# Altium integrated library Micron Memory Mobile LPDRAM.IntLib: 146 symbols (part 11 of 41)
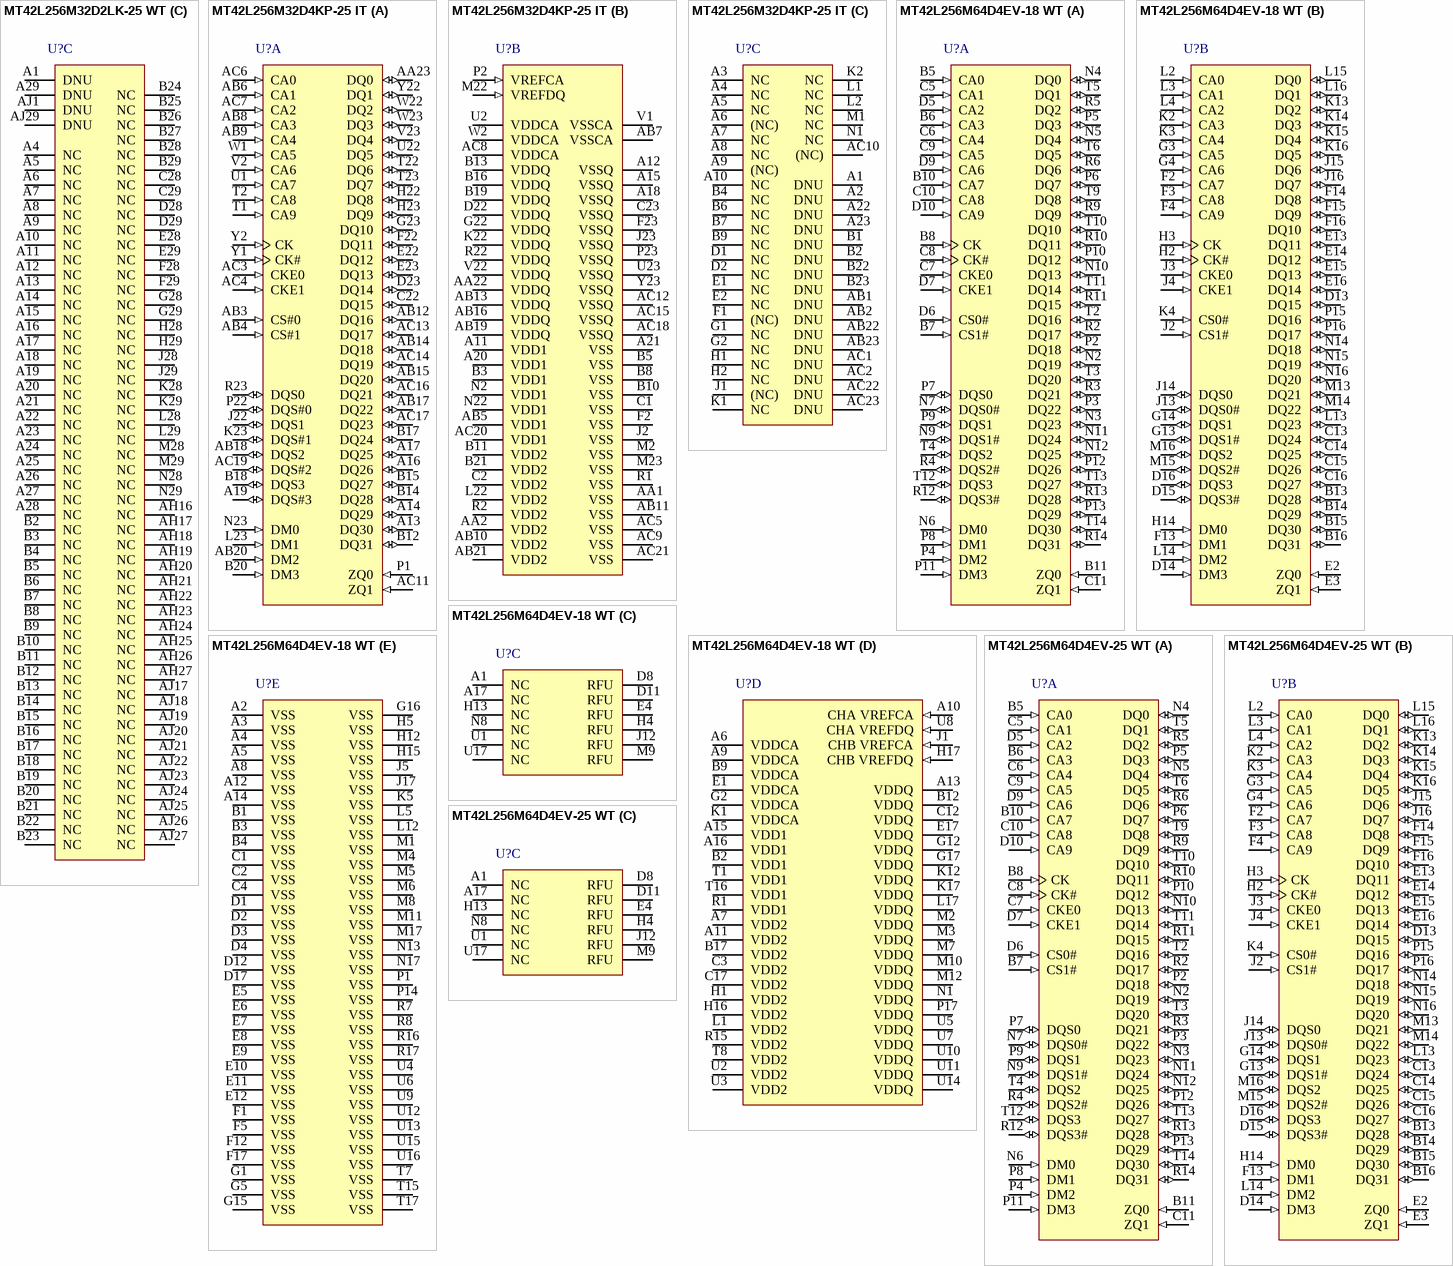
[diagram p34: symbols MT42L256M32D2LK-25 WT to MT42L256M64D4EV-25 WT]

## MT42L256M32D2LK-25 WT
designator U?
8Gb LPDDR2-800 SDRAM, 256Mb x 32, 2.5ns, 1.2V, -25 to 85 degC, 216-Ball WFBGA, Pb-Free; Manufacturer: Micron; PartNumber: MT42L256M32D2LK-25 WT; Clock Rate: 400 MHz; Op. Temp.: -25C to +85C; DatasheetVersion: Rev.L; PackageVersion: Rev.L; PackageReference: MICT-LK-216; PackageDescription: 216-Ball Fine-Pitch Ball Grid Array, 12 x 12 mm, Pitch 0.4 mm; Cycle Time: 2.5ns; Data Rate: LPDDR2-800; Density: 8Gb; Depth: 256Mb; Package: WFBGA; Part Status: Sampling; Pin Count: 216-ball; RoHS: Yes; Technology: Mobile LPDDR2; Voltage: 1.2V; Width: x32; Mounting Technology: Surface Mount; ComponentLink1Description: Manufacturer URL; ComponentLink1URL: http://www.micron.com/; ComponentLink2Description: Datasheet; ComponentLink2URL: http://www.micron.com/~/media/Documents/Products/Data%20Sheet/DRAM/Mobile%20DRAM/Low-Power%20DRAM/LPDDR2/U80M_4Gb_mobile_lpddr2_s4_sdram.pdf; ComponentLink3Description: Package Specification; ComponentLink3URL: http://www.micron.com/~/media/Documents/Products/Data%20Sheet/DRAM/Mobile%20DRAM/Low-Power%20DRAM/LPDDR2/U80M_4Gb_mobile_lpddr2_s4_sdram.pdf
footprint MICT-LK-216 (BGA, 216-Balls, Body 12x12mm, Pitch 0.4mm)
part A pins: AA1 DQS0 (io) "Data strobe: The data strobe is bidirectional (used for read and write data) and complementary (DQS and DQS#). It is edge-aligned output with read data and centered input with write data. DQS[3:0]/DQS[3:0]# is DQS for each (See Datasheet)", AA2 DQS#0 (io) "Data strobe: The data strobe is bidirectional (used for read and write data) and complementary (DQS and DQS#). It is edge-aligned output with read data and centered input with write data. DQS[3:0]/DQS[3:0]# is DQS for each (See Datasheet)", AA29 CKE0 (in) "Clock enable: CKE HIGH activates and CKE LOW deactivates the internal clock signals, input buffers, and output drivers. Power-saving modes are entered and exited via CKE transitions. CKE is considered part of the command (See Datasheet)", AB1 DM0 (in) "Input data mask: DM is an input mask signal for write data. Although DM balls are input-only, the DM loading is designed to match that of DQ and DQS balls. DM[3:0] is DM for each of the four data bytes, respectively.", AB28 CK (in) "Clock: CK and CK# are differential clock inputs. All CA inputs are sampled on both rising and falling edges of CK. CS and CKE inputs are sampled at the rising edge of CK. AC timings are referenced to clock.", AB29 CK# (in) "Clock: CK and CK# are differential clock inputs. All CA inputs are sampled on both rising and falling edges of CK. CS and CKE inputs are sampled at the rising edge of CK. AC timings are referenced to clock.", AC2 DM1 (in) "Input data mask: DM is an input mask signal for write data. Although DM balls are input-only, the DM loading is designed to match that of DQ and DQS balls. DM[3:0] is DM for each of the four data bytes, respectively.", AC29 CA5 (in) "Command/address inputs: Provide the command and address inputs according to the command truth table.", AD1 DQS#1 (io) "Data strobe: The data strobe is bidirectional (used for read and write data) and complementary (DQS and DQS#). It is edge-aligned output with read data and centered input with write data. DQS[3:0]/DQS[3:0]# is DQS for each (See Datasheet)", AD2 DQS1 (io) "Data strobe: The data strobe is bidirectional (used for read and write data) and complementary (DQS and DQS#). It is edge-aligned output with read data and centered input with write data. DQS[3:0]/DQS[3:0]# is DQS for each (See Datasheet)", AD28 CA7 (in) "Command/address inputs: Provide the command and address inputs according to the command truth table.", AD29 CA6 (in) "Command/address inputs: Provide the command and address inputs according to the command truth table.", AE1 DQ8 (io) "Data input/output: Bidirectional data bus.", AE28 CA8 (in) "Command/address inputs: Provide the command and address inputs according to the command truth table.", AF1 DQ9 (io) "Data input/output: Bidirectional data bus.", AF29 CA9 (in) "Command/address inputs: Provide the command and address inputs according to the command truth table.", AG1 DQ10 (io) "Data input/output: Bidirectional data bus.", AG2 DQ11 (io) "Data input/output: Bidirectional data bus.", AG29 ZQ (in) "External impedance (240 ohm): This signal is used to calibrate the device output impedance for S4 devices. For S2 devices, ZQ should be tied to VDDCA.", AH4 DQ13 (io) "Data input/output: Bidirectional data bus.", AH6 DQ15 (io) "Data input/output: Bidirectional data bus.", AH7 DM3 (in) "Input data mask: DM is an input mask signal for write data. Although DM balls are input-only, the DM loading is designed to match that of DQ and DQS balls. DM[3:0] is DM for each of the four data bytes, respectively.", AH8 DQS3 (io) "Data strobe: The data strobe is bidirectional (used for read and write data) and complementary (DQS and DQS#). It is edge-aligned output with read data and centered input with write data. DQS[3:0]/DQS[3:0]# is DQS for each (See Datasheet)", AH10 DQ26 (io) "Data input/output: Bidirectional data bus.", AH11 DQ27 (io) "Data input/output: Bidirectional data bus.", AH13 DQ30 (io) "Data input/output: Bidirectional data bus.", AJ3 DQ12 (io) "Data input/output: Bidirectional data bus.", AJ5 DQ14 (io) "Data input/output: Bidirectional data bus.", AJ8 DQS#3 (io) "Data strobe: The data strobe is bidirectional (used for read and write data) and complementary (DQS and DQS#). It is edge-aligned output with read data and centered input with write data. DQS[3:0]/DQS[3:0]# is DQS for each (See Datasheet)", AJ9 DQ24 (io) "Data input/output: Bidirectional data bus.", AJ10 DQ25 (io) "Data input/output: Bidirectional data bus.", AJ12 DQ28 (io) "Data input/output: Bidirectional data bus.", AJ13 DQ29 (io) "Data input/output: Bidirectional data bus.", AJ14 DQ31 (io) "Data input/output: Bidirectional data bus.", C2 DQ16 (io) "Data input/output: Bidirectional data bus.", D1 DQ17 (io) "Data input/output: Bidirectional data bus.", E1 DQ18 (io) "Data input/output: Bidirectional data bus.", E2 DQ19 (io) "Data input/output: Bidirectional data bus.", F2 DQ20 (io) "Data input/output: Bidirectional data bus.", G1 DQ21 (io) "Data input/output: Bidirectional data bus.", H1 DQ22 (io) "Data input/output: Bidirectional data bus.", H2 DQ23 (io) "Data input/output: Bidirectional data bus.", K1 DQS#2 (io) "Data strobe: The data strobe is bidirectional (used for read and write data) and complementary (DQS and DQS#). It is edge-aligned output with read data and centered input with write data. DQS[3:0]/DQS[3:0]# is DQS for each (See Datasheet)", K2 DQS2 (io) "Data strobe: The data strobe is bidirectional (used for read and write data) and complementary (DQS and DQS#). It is edge-aligned output with read data and centered input with write data. DQS[3:0]/DQS[3:0]# is DQS for each (See Datasheet)", L1 DM2 (in) "Input data mask: DM is an input mask signal for write data. Although DM balls are input-only, the DM loading is designed to match that of DQ and DQS balls. DM[3:0] is DM for each of the four data bytes, respectively.", L2 DQ0 (io) "Input data mask: DM is an input mask signal for write data. Although DM balls are input-only, the DM loading is designed to match that of DQ and DQS balls. DM[3:0] is DM for each of the four data bytes, respectively.", M1 DQ1 (io) "Data input/output: Bidirectional data bus.", N1 DQ2 (io) "Data input/output: Bidirectional data bus.", R29 CA0 (in) "Command/address inputs: Provide the command and address inputs according to the command truth table.", T29 CA1 (in) "Command/address inputs: Provide the command and address inputs according to the command truth table.", U2 DQ3 (io) "Data input/output: Bidirectional data bus.", U29 CA2 (in) "Command/address inputs: Provide the command and address inputs according to the command truth table.", V1 DQ4 (io) "Data input/output: Bidirectional data bus.", V29 CA3 (in) "Command/address inputs: Provide the command and address inputs according to the command truth table.", W1 DQ6 (io) "Data input/output: Bidirectional data bus.", W2 DQ5 (io) "Data input/output: Bidirectional data bus.", W28 CA4 (in) "Command/address inputs: Provide the command and address inputs according to the command truth table.", W29 CS#1 (in) "Chip select: CS# is considered part of the command code and is sampled at the rising edge of CK.", Y2 DQ7 (io) "Data input/output: Bidirectional data bus.", Y28 CS#0 (in) "Chip select: CS# is considered part of the command code and is sampled at the rising edge of CK.", Y29 CKE1 (in) "Clock enable: CKE HIGH activates and CKE LOW deactivates the internal clock signals, input buffers, and output drivers. Power-saving modes are entered and exited via CKE transitions. CKE is considered part of the command (See Datasheet)"
part B pins: A2 VSS (power) "Common ground", A3 VDD2 (power) "Core power: Supply 2.", AA28 VSSCA (power) "Command/address ground: Isolated on the die for improved noise immunity.", AB2 VSSQ (power) "DQ ground: Isolated on the die for improved noise immunity.", AC1 VDDQ (power) "DQ power supply: Isolated on the die for improved noise immunity.", AC28 VDDCA (power) "Command/address power supply: Command/address power supply.", AE2 VSSQ (power) "DQ ground: Isolated on the die for improved noise immunity.", AE29 VDDCA (power) "Command/address power supply: Command/address power supply.", AF2 VDDQ (power) "DQ power supply: Isolated on the die for improved noise immunity.", AF28 VSSCA (power) "Command/address ground: Isolated on the die for improved noise immunity.", AG28 VDD2 (power) "Core power: Supply 2.", AH1 VSSQ (power) "DQ ground: Isolated on the die for improved noise immunity.", AH2 VDD1 (power) "Core power: Supply 1.", AH3 VDD2 (power) "Core power: Supply 2.", AH5 VSSQ (power) "DQ ground: Isolated on the die for improved noise immunity.", AH9 VDDQ (power) "DQ power supply: Isolated on the die for improved noise immunity.", AH12 VDDQ (power) "DQ power supply: Isolated on the die for improved noise immunity.", AH14 VSSQ (power) "DQ ground: Isolated on the die for improved noise immunity.", AH15 VDD2 (power) "Core power: Supply 2.", AH28 VDD1 (power) "Core power: Supply 1.", AH29 VSSCA (power) "Command/address ground: Isolated on the die for improved noise immunity.", AJ2 VSS (power) "Common ground", AJ4 VDDQ (power) "DQ power supply: Isolated on the die for improved noise immunity.", AJ6 VDDQ (power) "DQ power supply: Isolated on the die for improved noise immunity.", AJ7 VSSQ (power) "DQ ground: Isolated on the die for improved noise immunity.", AJ11 VSSQ (power) "DQ ground: Isolated on the die for improved noise immunity.", AJ15 VDD1 (power) "Core power: Supply 1.", AJ16 VSS (power) "Common ground", AJ28 VSS (power) "Common ground", B1 VSSQ (power) "DQ ground: Isolated on the die for improved noise immunity.", C1 VDD1 (power) "Core power: Supply 1.", D2 VDDQ (power) "DQ power supply: Isolated on the die for improved noise immunity.", F1 VSSQ (power) "DQ ground: Isolated on the die for improved noise immunity.", G2 VDDQ (power) "DQ power supply: Isolated on the die for improved noise immunity.", J1 VSSQ (power) "DQ ground: Isolated on the die for improved noise immunity.", J2 VDDQ (power) "DQ power supply: Isolated on the die for improved noise immunity.", M2 VSSQ (power) "DQ ground: Isolated on the die for improved noise immunity.", N2 VDD1 (power) "Core power: Supply 1.", P1 VSS (power) "Common ground", P2 VSS (power) "Common ground", P28 VDD2 (power) "Core power: Supply 2.", P29 VDD1 (power) "Core power: Supply 1.", R1 VDD1 (power) "Core power: Supply 1.", R2 VREFDQ (in) "Reference voltage: VREFCA is reference for command/address input buffers, VREFDQ is reference for DQ input buffers.", R28 VSS (power) "Common ground", T1 VDD2 (power) "Core power: Supply 2.", T2 VDD2 (power) "Core power: Supply 2.", T28 VDDCA (power) "Command/address power supply: Command/address power supply.", U1 VDDQ (power) "DQ power supply: Isolated on the die for improved noise immunity.", U28 VREFCA (in) "Reference voltage: VREFCA is reference for command/address input buffers, VREFDQ is reference for DQ input buffers.", V2 VSSQ (power) "DQ ground: Isolated on the die for improved noise immunity.", V28 VSSCA (power) "Command/address ground: Isolated on the die for improved noise immunity.", Y1 VDDQ (power) "DQ power supply: Isolated on the die for improved noise immunity."
part C pins: A1 DNU "Do not use: Must be grounded or left floating.", A4 NC "No connect: Not internally connected.", A5 NC "No connect: Not internally connected.", A6 NC "No connect: Not internally connected.", A7 NC "No connect: Not internally connected.", A8 NC "No connect: Not internally connected.", A9 NC "No connect: Not internally connected.", A10 NC "No connect: Not internally connected.", A11 NC "No connect: Not internally connected.", A12 NC "No connect: Not internally connected.", A13 NC "No connect: Not internally connected.", A14 NC "No connect: Not internally connected.", A15 NC "No connect: Not internally connected.", A16 NC "No connect: Not internally connected.", A17 NC "No connect: Not internally connected.", A18 NC "No connect: Not internally connected.", A19 NC "No connect: Not internally connected.", A20 NC "No connect: Not internally connected.", A21 NC "No connect: Not internally connected.", A22 NC "No connect: Not internally connected.", A23 NC "No connect: Not internally connected.", A24 NC "No connect: Not internally connected.", A25 NC "No connect: Not internally connected.", A26 NC "No connect: Not internally connected.", A27 NC "No connect: Not internally connected.", A28 NC "No connect: Not internally connected.", A29 DNU "Do not use: Must be grounded or left floating.", AH16 NC "No connect: Not internally connected.", AH17 NC "No connect: Not internally connected.", AH18 NC "No connect: Not internally connected.", AH19 NC "No connect: Not internally connected.", AH20 NC "No connect: Not internally connected.", AH21 NC "No connect: Not internally connected.", AH22 NC "No connect: Not internally connected.", AH23 NC "No connect: Not internally connected.", AH24 NC "No connect: Not internally connected.", AH25 NC "No connect: Not internally connected.", AH26 NC "No connect: Not internally connected.", AH27 NC "No connect: Not internally connected.", AJ1 DNU "Do not use: Must be grounded or left floating.", AJ17 NC "No connect: Not internally connected.", AJ18 NC "No connect: Not internally connected.", AJ19 NC "No connect: Not internally connected.", AJ20 NC "No connect: Not internally connected.", AJ21 NC "No connect: Not internally connected.", AJ22 NC "No connect: Not internally connected.", AJ23 NC "No connect: Not internally connected.", AJ24 NC "No connect: Not internally connected.", AJ25 NC "No connect: Not internally connected.", AJ26 NC "No connect: Not internally connected.", AJ27 NC "No connect: Not internally connected.", AJ29 DNU "Do not use: Must be grounded or left floating.", B2 NC "No connect: Not internally connected.", B3 NC "No connect: Not internally connected.", B4 NC "No connect: Not internally connected.", B5 NC "No connect: Not internally connected.", B6 NC "No connect: Not internally connected.", B7 NC "No connect: Not internally connected.", B8 NC "No connect: Not internally connected.", B9 NC "No connect: Not internally connected.", B10 NC "No connect: Not internally connected.", B11 NC "No connect: Not internally connected.", B12 NC "No connect: Not internally connected.", B13 NC "No connect: Not internally connected.", B14 NC "No connect: Not internally connected.", B15 NC "No connect: Not internally connected.", B16 NC "No connect: Not internally connected.", B17 NC "No connect: Not internally connected.", B18 NC "No connect: Not internally connected.", B19 NC "No connect: Not internally connected.", B20 NC "No connect: Not internally connected.", B21 NC "No connect: Not internally connected.", B22 NC "No connect: Not internally connected.", B23 NC "No connect: Not internally connected.", B24 NC "No connect: Not internally connected.", B25 NC "No connect: Not internally connected.", B26 NC "No connect: Not internally connected.", B27 NC "No connect: Not internally connected.", B28 NC "No connect: Not internally connected.", B29 NC "No connect: Not internally connected.", C28 NC "No connect: Not internally connected.", C29 NC "No connect: Not internally connected.", D28 NC "No connect: Not internally connected.", D29 NC "No connect: Not internally connected.", E28 NC "No connect: Not internally connected.", E29 NC "No connect: Not internally connected.", F28 NC "No connect: Not internally connected.", F29 NC "No connect: Not internally connected.", G28 NC "No connect: Not internally connected.", G29 NC "No connect: Not internally connected.", H28 NC "No connect: Not internally connected.", H29 NC "No connect: Not internally connected.", J28 NC "No connect: Not internally connected.", J29 NC "No connect: Not internally connected.", K28 NC "No connect: Not internally connected.", K29 NC "No connect: Not internally connected.", L28 NC "No connect: Not internally connected.", L29 NC "No connect: Not internally connected.", M28 NC "No connect: Not internally connected.", M29 NC "No connect: Not internally connected.", N28 NC "No connect: Not internally connected.", N29 NC "No connect: Not internally connected."

## MT42L256M32D4KP-25 IT
designator U?
8Gb LPDDR2-800 SDRAM, 256Mb x 32, 2.5ns, 1.2V, -25 to 85 degC, 168-Pin POP, Pb-Free; Manufacturer: Micron; PartNumber: MT42L256M32D4KP-25 IT; Clock Rate: 400 MHz; Op. Temp.: -25C to +85C; DatasheetVersion: Rev.N; PackageVersion: Rev.N; PackageReference: MICT-KP-168; PackageDescription: 168-Ball POP, 12 x 12 mm, Pitch 0.5 mm; Cycle Time: 2.5ns; Data Rate: LPDDR2-800; Density: 8Gb; Depth: 256Mb; Package: POP; Part Status: Production; Pin Count: 168-ball; RoHS: Yes; Technology: Mobile LPDDR2; Voltage: 1.2V; Width: x32; Mounting Technology: Surface Mount; ComponentLink1Description: Manufacturer URL; ComponentLink1URL: http://www.micron.com/; ComponentLink2Description: Datasheet; ComponentLink2URL: http://www.micron.com/~/media/Documents/Products/Data%20Sheet/DRAM/Mobile%20DRAM/Low-Power%20DRAM/LPDDR2/G69A_2Gb_mobile_lpddr2_s4_sdram.pdf; ComponentLink3Description: Package Specification; ComponentLink3URL: http://www.micron.com/~/media/Documents/Products/Data%20Sheet/DRAM/Mobile%20DRAM/Low-Power%20DRAM/LPDDR2/G69A_2Gb_mobile_lpddr2_s4_sdram.pdf
footprint MICT-KP-168 (BGA, 168-Balls, Body 12x12mm, Pitch 0.5mm)
part A pins: A13 DQ30 (io) "Data input/output: Bidirectional data bus.", A14 DQ29 (io) "Data input/output: Bidirectional data bus.", A16 DQ26 (io) "Data input/output: Bidirectional data bus.", A17 DQ25 (io) "Data input/output: Bidirectional data bus.", A19 DQS#3 (io) "Data strobe: The data strobe is bidirectional (used for read and write data) and complementary (DQS and DQS#). It is edge-aligned output with read data and centered input with write data. DQS[3:0]/DQS[3:0]# is DQS for each (See Datasheet)", AA23 DQ0 (io) "Data input/output: Bidirectional data bus.", AB3 CS#0 (in) "Chip select: CS# is considered part of the command code and is sampled at the rising edge of CK.", AB4 CS#1 (in) "Chip select: CS# is considered part of the command code and is sampled at the rising edge of CK.", AB6 CA1 (in) "Command/address inputs: Provide the command and address inputs according to the command truth table.", AB8 CA3 (in) "Command/address inputs: Provide the command and address inputs according to the command truth table.", AB9 CA4 (in) "Command/address inputs: Provide the command and address inputs according to the command truth table.", AB12 DQ16 (io) "Data input/output: Bidirectional data bus.", AB14 DQ18 (io) "Data input/output: Bidirectional data bus.", AB15 DQ20 (io) "Data input/output: Bidirectional data bus.", AB17 DQ22 (io) "Data input/output: Bidirectional data bus.", AB18 DQS2 (io) "Data strobe: The data strobe is bidirectional (used for read and write data) and complementary (DQS and DQS#). It is edge-aligned output with read data and centered input with write data. DQS[3:0]/DQS[3:0]# is DQS for each (See Datasheet)", AB20 DM2 (in) "Input data mask: DM is an input mask signal for write data. Although DM balls are input-only, the DM loading is designed to match that of DQ and DQS balls. DM[3:0] is DM for each of the four data bytes, respectively.", AC3 CKE0 (in) "Clock enable: CKE HIGH activates and CKE LOW deactivates the internal clock signals, input buffers, and output drivers. Power-saving modes are entered and exited via CKE transitions. CKE is considered part of the command (See Datasheet)", AC4 CKE1 (in) "Clock enable: CKE HIGH activates and CKE LOW deactivates the internal clock signals, input buffers, and output drivers. Power-saving modes are entered and exited via CKE transitions. CKE is considered part of the command (See Datasheet)", AC6 CA0 (in) "Command/address inputs: Provide the command and address inputs according to the command truth table.", AC7 CA2 (in) "Command/address inputs: Provide the command and address inputs according to the command truth table.", AC11 ZQ1 (in) "External impedance (240 ohm): This signal is used to calibrate the device output impedance for S4 devices. For S2 devices, ZQ should be tied to VDDCA.", AC13 DQ17 (io) "Data input/output: Bidirectional data bus.", AC14 DQ19 (io) "Data input/output: Bidirectional data bus.", AC16 DQ21 (io) "Data input/output: Bidirectional data bus.", AC17 DQ23 (io) "Data input/output: Bidirectional data bus.", AC19 DQS#2 (io) "Data strobe: The data strobe is bidirectional (used for read and write data) and complementary (DQS and DQS#). It is edge-aligned output with read data and centered input with write data. DQS[3:0]/DQS[3:0]# is DQS for each (See Datasheet)", B12 DQ31 (io) "Data input/output: Bidirectional data bus.", B14 DQ28 (io) "Data input/output: Bidirectional data bus.", B15 DQ27 (io) "Data input/output: Bidirectional data bus.", B17 DQ24 (io) "Data input/output: Bidirectional data bus.", B18 DQS3 (io) "Data strobe: The data strobe is bidirectional (used for read and write data) and complementary (DQS and DQS#). It is edge-aligned output with read data and centered input with write data. DQS[3:0]/DQS[3:0]# is DQS for each (See Datasheet)", B20 DM3 (in) "Input data mask: DM is an input mask signal for write data. Although DM balls are input-only, the DM loading is designed to match that of DQ and DQS balls. DM[3:0] is DM for each of the four data bytes, respectively.", C22 DQ15 (io) "Data input/output: Bidirectional data bus.", D23 DQ14 (io) "Data input/output: Bidirectional data bus.", E22 DQ12 (io) "Data input/output: Bidirectional data bus.", E23 DQ13 (io) "Data input/output: Bidirectional data bus.", F22 DQ11 (io) "Data input/output: Bidirectional data bus.", G23 DQ10 (io) "Data input/output: Bidirectional data bus.", H22 DQ8 (io) "Data input/output: Bidirectional data bus.", H23 DQ9 (io) "Data input/output: Bidirectional data bus.", J22 DQS1 (io) "Data strobe: The data strobe is bidirectional (used for read and write data) and complementary (DQS and DQS#). It is edge-aligned output with read data and centered input with write data. DQS[3:0]/DQS[3:0]# is DQS for each (See Datasheet)", K23 DQS#1 (io) "Data strobe: The data strobe is bidirectional (used for read and write data) and complementary (DQS and DQS#). It is edge-aligned output with read data and centered input with write data. DQS[3:0]/DQS[3:0]# is DQS for each (See Datasheet)", L23 DM1 (in) "Input data mask: DM is an input mask signal for write data. Although DM balls are input-only, the DM loading is designed to match that of DQ and DQS balls. DM[3:0] is DM for each of the four data bytes, respectively.", N23 DM0 (in) "Input data mask: DM is an input mask signal for write data. Although DM balls are input-only, the DM loading is designed to match that of DQ and DQS balls. DM[3:0] is DM for each of the four data bytes, respectively.", P1 ZQ0 (in) "External impedance (240 ohm): This signal is used to calibrate the device output impedance for S4 devices. For S2 devices, ZQ should be tied to VDDCA.", P22 DQS#0 (io) "Data strobe: The data strobe is bidirectional (used for read and write data) and complementary (DQS and DQS#). It is edge-aligned output with read data and centered input with write data. DQS[3:0]/DQS[3:0]# is DQS for each (See Datasheet)", R23 DQS0 (io) "Data strobe: The data strobe is bidirectional (used for read and write data) and complementary (DQS and DQS#). It is edge-aligned output with read data and centered input with write data. DQS[3:0]/DQS[3:0]# is DQS for each (See Datasheet)", T1 CA9 (in) "Command/address inputs: Provide the command and address inputs according to the command truth table.", T2 CA8 (in) "Command/address inputs: Provide the command and address inputs according to the command truth table.", T22 DQ6 (io) "Data input/output: Bidirectional data bus.", T23 DQ7 (io) "Data input/output: Bidirectional data bus.", U1 CA7 (in) "Command/address inputs: Provide the command and address inputs according to the command truth table.", U22 DQ5 (io) "Data input/output: Bidirectional data bus.", V2 CA6 (in) "Command/address inputs: Provide the command and address inputs according to the command truth table.", V23 DQ4 (io) "Data input/output: Bidirectional data bus.", W1 CA5 (in) "Command/address inputs: Provide the command and address inputs according to the command truth table.", W22 DQ2 (io) "Data input/output: Bidirectional data bus.", W23 DQ3 (io) "Data input/output: Bidirectional data bus.", Y1 CK# (in) "Clock: CK and CK# are differential clock inputs. All CA inputs are sampled on both rising and falling edges of CK. CS and CKE inputs are sampled at the rising edge of CK. AC timings are referenced to clock.", Y2 CK (in) "Clock: CK and CK# are differential clock inputs. All CA inputs are sampled on both rising and falling edges of CK. CS and CKE inputs are sampled at the rising edge of CK. AC timings are referenced to clock.", Y22 DQ1 (io) "Data input/output: Bidirectional data bus."
part B pins: A11 VDD1 (power) "Core power: Supply 1.", A12 VSSQ (power) "DQ ground: Isolated on the die for improved noise immunity.", A15 VSSQ (power) "DQ ground: Isolated on the die for improved noise immunity.", A18 VSSQ (power) "DQ ground: Isolated on the die for improved noise immunity.", A20 VDD1 (power) "Core power: Supply 1.", A21 VSS (power) "Common ground", AA1 VSS (power) "Common ground", AA2 VDD2 (power) "Core power: Supply 2.", AA22 VDDQ (power) "DQ power supply: Isolated on the die for improved noise immunity.", AB5 VDD1 (power) "Core power: Supply 1.", AB7 VSSCA (power) "Command/address ground: Isolated on the die for improved noise immunity.", AB10 VDD2 (power) "Core power: Supply 2.", AB11 VSS (power) "Common ground", AB13 VDDQ (power) "DQ power supply: Isolated on the die for improved noise immunity.", AB16 VDDQ (power) "DQ power supply: Isolated on the die for improved noise immunity.", AB19 VDDQ (power) "DQ power supply: Isolated on the die for improved noise immunity.", AB21 VDD2 (power) "Core power: Supply 2.", AC5 VSS (power) "Common ground", AC8 VDDCA (power) "Command/address power supply: Command/address power supply.", AC9 VSS (power) "Common ground", AC12 VSSQ (power) "DQ ground: Isolated on the die for improved noise immunity.", AC15 VSSQ (power) "DQ ground: Isolated on the die for improved noise immunity.", AC18 VSSQ (power) "DQ ground: Isolated on the die for improved noise immunity.", AC20 VDD1 (power) "Core power: Supply 1.", AC21 VSS (power) "Common ground", B3 VDD1 (power) "Core power: Supply 1.", B5 VSS (power) "Common ground", B8 VSS (power) "Common ground", B10 VSS (power) "Common ground", B11 VDD2 (power) "Core power: Supply 2.", B13 VDDQ (power) "DQ power supply: Isolated on the die for improved noise immunity.", B16 VDDQ (power) "DQ power supply: Isolated on the die for improved noise immunity.", B19 VDDQ (power) "DQ power supply: Isolated on the die for improved noise immunity.", B21 VDD2 (power) "Core power: Supply 2.", C1 VSS (power) "Common ground", C2 VDD2 (power) "Core power: Supply 2.", C23 VSSQ (power) "DQ ground: Isolated on the die for improved noise immunity.", D22 VDDQ (power) "DQ power supply: Isolated on the die for improved noise immunity.", F2 VSS (power) "Common ground", F23 VSSQ (power) "DQ ground: Isolated on the die for improved noise immunity.", G22 VDDQ (power) "DQ power supply: Isolated on the die for improved noise immunity.", J2 VSS (power) "Common ground", J23 VSSQ (power) "DQ ground: Isolated on the die for improved noise immunity.", K22 VDDQ (power) "DQ power supply: Isolated on the die for improved noise immunity.", L22 VDD2 (power) "Core power: Supply 2.", M2 VSS (power) "Common ground", M22 VREFDQ (in) "Reference voltage: VREFCA is reference for command/address input buffers, VREFDQ is reference for DQ input buffers.", M23 VSS (power) "Common ground", N2 VDD1 (power) "Core power: Supply 1.", N22 VDD1 (power) "Core power: Supply 1.", P2 VREFCA (in) "Reference voltage: VREFCA is reference for command/address input buffers, VREFDQ is reference for DQ input buffers.", P23 VSSQ (power) "DQ ground: Isolated on the die for improved noise immunity.", R1 VSS (power) "Common ground", R2 VDD2 (power) "Core power: Supply 2.", R22 VDDQ (power) "DQ power supply: Isolated on the die for improved noise immunity.", U2 VDDCA (power) "Command/address power supply: Command/address power supply.", U23 VSSQ (power) "DQ ground: Isolated on the die for improved noise immunity.", V1 VSSCA (power) "Command/address ground: Isolated on the die for improved noise immunity.", V22 VDDQ (power) "DQ power supply: Isolated on the die for improved noise immunity.", W2 VDDCA (power) "Command/address power supply: Command/address power supply.", Y23 VSSQ (power) "DQ ground: Isolated on the die for improved noise immunity."
part C pins: A1 DNU "Do not use: Must be grounded or left floating.", A2 DNU "Do not use: Must be grounded or left floating.", A3 NC "No connect: Not internally connected.", A4 NC "No connect: Not internally connected.", A5 NC "No connect: Not internally connected.", A6 (NC) "No connect: Balls indicated as (NC) are no connects, however, they could be connected together internally.", A7 NC "No connect: Not internally connected.", A8 NC "No connect: Not internally connected.", A9 (NC) "No connect: Balls indicated as (NC) are no connects, however, they could be connected together internally.", A10 NC "No connect: Not internally connected.", A22 DNU "Do not use: Must be grounded or left floating.", A23 DNU "Do not use: Must be grounded or left floating.", AB1 DNU "Do not use: Must be grounded or left floating.", AB2 DNU "Do not use: Must be grounded or left floating.", AB22 DNU "Do not use: Must be grounded or left floating.", AB23 DNU "Do not use: Must be grounded or left floating.", AC1 DNU "Do not use: Must be grounded or left floating.", AC2 DNU "Do not use: Must be grounded or left floating.", AC10 (NC) "No connect: Balls indicated as (NC) are no connects, however, they could be connected together internally.", AC22 DNU "Do not use: Must be grounded or left floating.", AC23 DNU "Do not use: Must be grounded or left floating.", B1 DNU "Do not use: Must be grounded or left floating.", B2 DNU "Do not use: Must be grounded or left floating.", B4 NC "No connect: Not internally connected.", B6 NC "No connect: Not internally connected.", B7 NC "No connect: Not internally connected.", B9 NC "No connect: Not internally connected.", B22 DNU "Do not use: Must be grounded or left floating.", B23 DNU "Do not use: Must be grounded or left floating.", D1 NC "No connect: Not internally connected.", D2 NC "No connect: Not internally connected.", E1 NC "No connect: Not internally connected.", E2 NC "No connect: Not internally connected.", F1 (NC) "No connect: Balls indicated as (NC) are no connects, however, they could be connected together internally.", G1 NC "No connect: Not internally connected.", G2 NC "No connect: Not internally connected.", H1 NC "No connect: Not internally connected.", H2 NC "No connect: Not internally connected.", J1 (NC) "No connect: Balls indicated as (NC) are no connects, however, they could be connected together internally.", K1 NC "No connect: Not internally connected.", K2 NC "No connect: Not internally connected.", L1 NC "No connect: Not internally connected.", L2 NC "No connect: Not internally connected.", M1 NC "No connect: Not internally connected.", N1 NC "No connect: Not internally connected."